# Altium footprint library QFPxx.PcbLib: 5 footprints (part 3 of 3)
Each footprint in its own frame and in the unit in brackets; x right, y up, seen from the top. Pads: shape width x height; smd on the part's side, far side on the other; paste and mask are expansions set on the pad; w line width, h text height; cw(c..) or ccw(c..) is an arc to the next point about the centre after c.
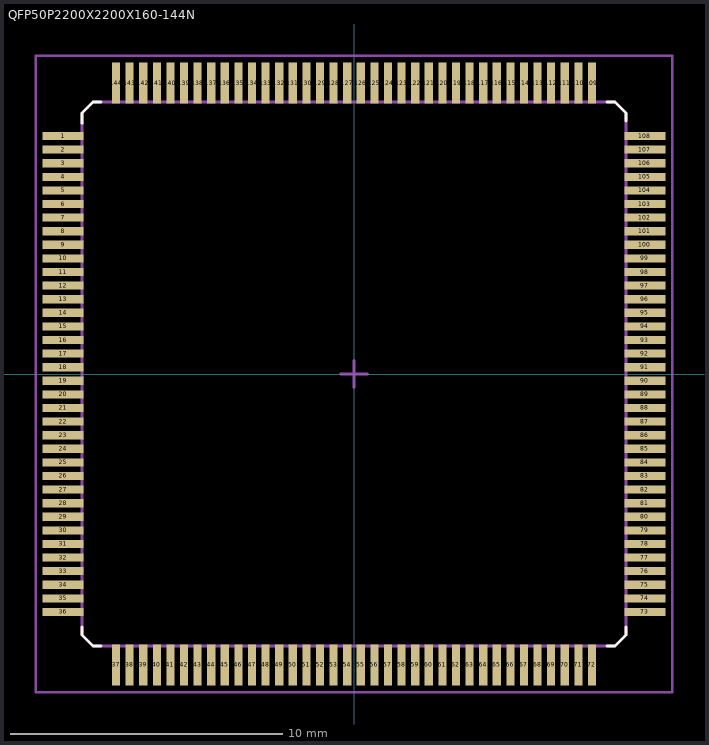
[diagram p2: the footprint, top view; thin cyan lines are the x and y axes]

## QFP50P2200X2200X160-144N [mm] "Thin QFP, 144-Leads, Body 20x20mm, Pitch 0.5mm"
height 1.6
pads (144):
  rect 1.5x0.3 smd: 1(-10.7,8.75) 2(-10.7,8.25) 3(-10.7,7.75) 4(-10.7,7.25) 5(-10.7,6.75) 6(-10.7,6.25) 7(-10.7,5.75) 8(-10.7,5.25) 9(-10.7,4.75) 10(-10.7,4.25) 11(-10.7,3.75) 12(-10.7,3.25) 13(-10.7,2.75) 14(-10.7,2.25) 15(-10.7,1.75) 16(-10.7,1.25) 17(-10.7,0.75) 18(-10.7,0.25) 19(-10.7,-0.25) 20(-10.7,-0.75) 21(-10.7,-1.25) 22(-10.7,-1.75) 23(-10.7,-2.25) 24(-10.7,-2.75) 25(-10.7,-3.25) 26(-10.7,-3.75) 27(-10.7,-4.25) 28(-10.7,-4.75) 29(-10.7,-5.25) 30(-10.7,-5.75) 31(-10.7,-6.25) 32(-10.7,-6.75) 33(-10.7,-7.25) 34(-10.7,-7.75) 35(-10.7,-8.25) 36(-10.7,-8.75) 73(10.7,-8.75) 74(10.7,-8.25) 75(10.7,-7.75) 76(10.7,-7.25) 77(10.7,-6.75) 78(10.7,-6.25) 79(10.7,-5.75) 80(10.7,-5.25) 81(10.7,-4.75) 82(10.7,-4.25) 83(10.7,-3.75) 84(10.7,-3.25) 85(10.7,-2.75) 86(10.7,-2.25) 87(10.7,-1.75) 88(10.7,-1.25) 89(10.7,-0.75) 90(10.7,-0.25) 91(10.7,0.25) 92(10.7,0.75) 93(10.7,1.25) 94(10.7,1.75) 95(10.7,2.25) 96(10.7,2.75) 97(10.7,3.25) 98(10.7,3.75) 99(10.7,4.25) 100(10.7,4.75) 101(10.7,5.25) 102(10.7,5.75) 103(10.7,6.25) 104(10.7,6.75) 105(10.7,7.25) 106(10.7,7.75) 107(10.7,8.25) 108(10.7,8.75)
  rect 0.3x1.5 smd: 37(-8.75,-10.7) 38(-8.25,-10.7) 39(-7.75,-10.7) 40(-7.25,-10.7) 41(-6.75,-10.7) 42(-6.25,-10.7) 43(-5.75,-10.7) 44(-5.25,-10.7) 45(-4.75,-10.7) 46(-4.25,-10.7) 47(-3.75,-10.7) 48(-3.25,-10.7) 49(-2.75,-10.7) 50(-2.25,-10.7) 51(-1.75,-10.7) 52(-1.25,-10.7) 53(-0.75,-10.7) 54(-0.25,-10.7) 55(0.25,-10.7) 56(0.75,-10.7) 57(1.25,-10.7) 58(1.75,-10.7) 59(2.25,-10.7) 60(2.75,-10.7) 61(3.25,-10.7) 62(3.75,-10.7) 63(4.25,-10.7) 64(4.75,-10.7) 65(5.25,-10.7) 66(5.75,-10.7) 67(6.25,-10.7) 68(6.75,-10.7) 69(7.25,-10.7) 70(7.75,-10.7) 71(8.25,-10.7) 72(8.75,-10.7) 109(8.75,10.7) 110(8.25,10.7) 111(7.75,10.7) 112(7.25,10.7) 113(6.75,10.7) 114(6.25,10.7) 115(5.75,10.7) 116(5.25,10.7) 117(4.75,10.7) 118(4.25,10.7) 119(3.75,10.7) 120(3.25,10.7) 121(2.75,10.7) 122(2.25,10.7) 123(1.75,10.7) 124(1.25,10.7) 125(0.75,10.7) 126(0.25,10.7) 127(-0.25,10.7) 128(-0.75,10.7) 129(-1.25,10.7) 130(-1.75,10.7) 131(-2.25,10.7) 132(-2.75,10.7) 133(-3.25,10.7) 134(-3.75,10.7) 135(-4.25,10.7) 136(-4.75,10.7) 137(-5.25,10.7) 138(-5.75,10.7) 139(-6.25,10.7) 140(-6.75,10.7) 141(-7.25,10.7) 142(-7.75,10.7) 143(-8.25,10.7) 144(-8.75,10.7)
Top Overlay:
  lines w0.1: -10,-9.3 -10,-9.6 -9.6,-10 -9.3,-10 ; -10,9.225 -10,9.6 -9.6,10 -9.3,10 ; 9.3,-10 9.6,-10 10,-9.6 10,-9.3 ; 9.3,10 9.6,10 10,9.6 10,9.3
Mechanical 13:
  lines w0.1: -10,-9.6 -10,9.6 -9.6,10 9.6,10 10,9.6 10,-9.6 9.6,-10 -9.6,-10 -10,-9.6
Mechanical 15:
  lines w0.1: -0.5,0 0.5,0 ; 0,-0.5 0,0.5 ; -11.7,-11.7 -11.7,11.7 11.7,11.7 11.7,-11.7 -11.7,-11.7
3D body: height 0.9, standoff 0, extent 8.625,10.2 8.875,10.3
3D body: height 0.9, standoff 0.7, extent 8.625,10 8.875,10.3
3D body: height 0.2, standoff 0, extent 8.625,10.3 8.875,11
3D body: height 0.9, standoff 0, extent 8.625,10.2 8.875,10.3
3D body: height 0.9, standoff 0.7, extent 8.625,10 8.875,10.3
3D body: height 0.2, standoff 0, extent 8.625,10.3 8.875,11
3D body: height 0.9, standoff 0, extent 8.125,10.2 8.375,10.3
3D body: height 0.9, standoff 0.7, extent 8.125,10 8.375,10.3
3D body: height 0.2, standoff 0, extent 8.125,10.3 8.375,11
3D body: height 0.9, standoff 0, extent 8.125,10.2 8.375,10.3
3D body: height 0.9, standoff 0.7, extent 8.125,10 8.375,10.3
3D body: height 0.2, standoff 0, extent 8.125,10.3 8.375,11
3D body: height 0.9, standoff 0, extent 7.625,10.2 7.875,10.3
3D body: height 0.9, standoff 0.7, extent 7.625,10 7.875,10.3
3D body: height 0.2, standoff 0, extent 7.625,10.3 7.875,11
3D body: height 0.9, standoff 0, extent 7.625,10.2 7.875,10.3
3D body: height 0.9, standoff 0.7, extent 7.625,10 7.875,10.3
3D body: height 0.2, standoff 0, extent 7.625,10.3 7.875,11
3D body: height 0.9, standoff 0, extent 7.125,10.2 7.375,10.3
3D body: height 0.9, standoff 0.7, extent 7.125,10 7.375,10.3
3D body: height 0.2, standoff 0, extent 7.125,10.3 7.375,11
3D body: height 0.9, standoff 0, extent 7.125,10.2 7.375,10.3
3D body: height 0.9, standoff 0.7, extent 7.125,10 7.375,10.3
3D body: height 0.2, standoff 0, extent 7.125,10.3 7.375,11
3D body: height 0.2, standoff 0, extent 5.125,10.3 5.375,11
3D body: height 0.9, standoff 0.7, extent 5.125,10 5.375,10.3
3D body: height 0.9, standoff 0, extent 5.125,10.2 5.375,10.3
3D body: height 0.2, standoff 0, extent 5.125,10.3 5.375,11
3D body: height 0.9, standoff 0.7, extent 5.125,10 5.375,10.3
3D body: height 0.9, standoff 0, extent 5.125,10.2 5.375,10.3
3D body: height 0.2, standoff 0, extent 5.625,10.3 5.875,11
3D body: height 0.9, standoff 0.7, extent 5.625,10 5.875,10.3
3D body: height 0.9, standoff 0, extent 5.625,10.2 5.875,10.3
3D body: height 0.2, standoff 0, extent 5.625,10.3 5.875,11
3D body: height 0.9, standoff 0.7, extent 5.625,10 5.875,10.3
3D body: height 0.9, standoff 0, extent 5.625,10.2 5.875,10.3
3D body: height 0.2, standoff 0, extent 6.125,10.3 6.375,11
3D body: height 0.9, standoff 0.7, extent 6.125,10 6.375,10.3
3D body: height 0.9, standoff 0, extent 6.125,10.2 6.375,10.3
3D body: height 0.2, standoff 0, extent 6.125,10.3 6.375,11
3D body: height 0.9, standoff 0.7, extent 6.125,10 6.375,10.3
3D body: height 0.9, standoff 0, extent 6.125,10.2 6.375,10.3
3D body: height 0.2, standoff 0, extent 6.625,10.3 6.875,11
3D body: height 0.9, standoff 0.7, extent 6.625,10 6.875,10.3
3D body: height 0.9, standoff 0, extent 6.625,10.2 6.875,10.3
3D body: height 0.2, standoff 0, extent 6.625,10.3 6.875,11
3D body: height 0.9, standoff 0.7, extent 6.625,10 6.875,10.3
3D body: height 0.9, standoff 0, extent 6.625,10.2 6.875,10.3
3D body: height 0.2, standoff 0, extent 3.125,10.3 3.375,11
3D body: height 0.9, standoff 0.7, extent 3.125,10 3.375,10.3
3D body: height 0.9, standoff 0, extent 3.125,10.2 3.375,10.3
3D body: height 0.2, standoff 0, extent 3.125,10.3 3.375,11
3D body: height 0.9, standoff 0.7, extent 3.125,10 3.375,10.3
3D body: height 0.9, standoff 0, extent 3.125,10.2 3.375,10.3
3D body: height 0.2, standoff 0, extent 3.625,10.3 3.875,11
3D body: height 0.9, standoff 0.7, extent 3.625,10 3.875,10.3
3D body: height 0.9, standoff 0, extent 3.625,10.2 3.875,10.3
3D body: height 0.2, standoff 0, extent 3.625,10.3 3.875,11
3D body: height 0.9, standoff 0.7, extent 3.625,10 3.875,10.3
3D body: height 0.9, standoff 0, extent 3.625,10.2 3.875,10.3
3D body: height 0.2, standoff 0, extent 4.125,10.3 4.375,11
3D body: height 0.9, standoff 0.7, extent 4.125,10 4.375,10.3
3D body: height 0.9, standoff 0, extent 4.125,10.2 4.375,10.3
3D body: height 0.2, standoff 0, extent 4.125,10.3 4.375,11
3D body: height 0.9, standoff 0.7, extent 4.125,10 4.375,10.3
3D body: height 0.9, standoff 0, extent 4.125,10.2 4.375,10.3
3D body: height 0.2, standoff 0, extent 4.625,10.3 4.875,11
3D body: height 0.9, standoff 0.7, extent 4.625,10 4.875,10.3
3D body: height 0.9, standoff 0, extent 4.625,10.2 4.875,10.3
3D body: height 0.2, standoff 0, extent 4.625,10.3 4.875,11
3D body: height 0.9, standoff 0.7, extent 4.625,10 4.875,10.3
3D body: height 0.9, standoff 0, extent 4.625,10.2 4.875,10.3
3D body: height 0.2, standoff 0, extent 1.125,10.3 1.375,11
3D body: height 0.9, standoff 0.7, extent 1.125,10 1.375,10.3
3D body: height 0.9, standoff 0, extent 1.125,10.2 1.375,10.3
3D body: height 0.2, standoff 0, extent 1.125,10.3 1.375,11
3D body: height 0.9, standoff 0.7, extent 1.125,10 1.375,10.3
3D body: height 0.9, standoff 0, extent 1.125,10.2 1.375,10.3
3D body: height 0.2, standoff 0, extent 1.625,10.3 1.875,11
3D body: height 0.9, standoff 0.7, extent 1.625,10 1.875,10.3
3D body: height 0.9, standoff 0, extent 1.625,10.2 1.875,10.3
3D body: height 0.2, standoff 0, extent 1.625,10.3 1.875,11
3D body: height 0.9, standoff 0.7, extent 1.625,10 1.875,10.3
3D body: height 0.9, standoff 0, extent 1.625,10.2 1.875,10.3
3D body: height 0.2, standoff 0, extent 2.125,10.3 2.375,11
3D body: height 0.9, standoff 0.7, extent 2.125,10 2.375,10.3
3D body: height 0.9, standoff 0, extent 2.125,10.2 2.375,10.3
3D body: height 0.2, standoff 0, extent 2.125,10.3 2.375,11
3D body: height 0.9, standoff 0.7, extent 2.125,10 2.375,10.3
3D body: height 0.9, standoff 0, extent 2.125,10.2 2.375,10.3
3D body: height 0.2, standoff 0, extent 2.625,10.3 2.875,11
3D body: height 0.9, standoff 0.7, extent 2.625,10 2.875,10.3
3D body: height 0.9, standoff 0, extent 2.625,10.2 2.875,10.3
3D body: height 0.2, standoff 0, extent 2.625,10.3 2.875,11
3D body: height 0.9, standoff 0.7, extent 2.625,10 2.875,10.3
3D body: height 0.9, standoff 0, extent 2.625,10.2 2.875,10.3
3D body: height 0.2, standoff 0, extent -0.875,10.3 -0.625,11
3D body: height 0.9, standoff 0.7, extent -0.875,10 -0.625,10.3
3D body: height 0.9, standoff 0, extent -0.875,10.2 -0.625,10.3
3D body: height 0.2, standoff 0, extent -0.875,10.3 -0.625,11
3D body: height 0.9, standoff 0.7, extent -0.875,10 -0.625,10.3
3D body: height 0.9, standoff 0, extent -0.875,10.2 -0.625,10.3
3D body: height 0.2, standoff 0, extent -0.375,10.3 -0.125,11
3D body: height 0.9, standoff 0.7, extent -0.375,10 -0.125,10.3
3D body: height 0.9, standoff 0, extent -0.375,10.2 -0.125,10.3
3D body: height 0.2, standoff 0, extent -0.375,10.3 -0.125,11
3D body: height 0.9, standoff 0.7, extent -0.375,10 -0.125,10.3
3D body: height 0.9, standoff 0, extent -0.375,10.2 -0.125,10.3
3D body: height 0.2, standoff 0, extent 0.125,10.3 0.375,11
3D body: height 0.9, standoff 0.7, extent 0.125,10 0.375,10.3
3D body: height 0.9, standoff 0, extent 0.125,10.2 0.375,10.3
3D body: height 0.2, standoff 0, extent 0.125,10.3 0.375,11
3D body: height 0.9, standoff 0.7, extent 0.125,10 0.375,10.3
3D body: height 0.9, standoff 0, extent 0.125,10.2 0.375,10.3
3D body: height 0.2, standoff 0, extent 0.625,10.3 0.875,11
3D body: height 0.9, standoff 0.7, extent 0.625,10 0.875,10.3
3D body: height 0.9, standoff 0, extent 0.625,10.2 0.875,10.3
3D body: height 0.2, standoff 0, extent 0.625,10.3 0.875,11
3D body: height 0.9, standoff 0.7, extent 0.625,10 0.875,10.3
3D body: height 0.9, standoff 0, extent 0.625,10.2 0.875,10.3
3D body: height 0.2, standoff 0, extent -2.875,10.3 -2.625,11
3D body: height 0.9, standoff 0.7, extent -2.875,10 -2.625,10.3
3D body: height 0.9, standoff 0, extent -2.875,10.2 -2.625,10.3
3D body: height 0.2, standoff 0, extent -2.875,10.3 -2.625,11
3D body: height 0.9, standoff 0.7, extent -2.875,10 -2.625,10.3
3D body: height 0.9, standoff 0, extent -2.875,10.2 -2.625,10.3
3D body: height 0.2, standoff 0, extent -2.375,10.3 -2.125,11
3D body: height 0.9, standoff 0.7, extent -2.375,10 -2.125,10.3
3D body: height 0.9, standoff 0, extent -2.375,10.2 -2.125,10.3
3D body: height 0.2, standoff 0, extent -2.375,10.3 -2.125,11
3D body: height 0.9, standoff 0.7, extent -2.375,10 -2.125,10.3
3D body: height 0.9, standoff 0, extent -2.375,10.2 -2.125,10.3
3D body: height 0.2, standoff 0, extent -1.875,10.3 -1.625,11
3D body: height 0.9, standoff 0.7, extent -1.875,10 -1.625,10.3
3D body: height 0.9, standoff 0, extent -1.875,10.2 -1.625,10.3
3D body: height 0.2, standoff 0, extent -1.875,10.3 -1.625,11
3D body: height 0.9, standoff 0.7, extent -1.875,10 -1.625,10.3
3D body: height 0.9, standoff 0, extent -1.875,10.2 -1.625,10.3
3D body: height 0.2, standoff 0, extent -1.375,10.3 -1.125,11
3D body: height 0.9, standoff 0.7, extent -1.375,10 -1.125,10.3
3D body: height 0.9, standoff 0, extent -1.375,10.2 -1.125,10.3
3D body: height 0.2, standoff 0, extent -1.375,10.3 -1.125,11
3D body: height 0.9, standoff 0.7, extent -1.375,10 -1.125,10.3
3D body: height 0.9, standoff 0, extent -1.375,10.2 -1.125,10.3
3D body: height 0.2, standoff 0, extent -4.875,10.3 -4.625,11
3D body: height 0.9, standoff 0.7, extent -4.875,10 -4.625,10.3
3D body: height 0.9, standoff 0, extent -4.875,10.2 -4.625,10.3
3D body: height 0.2, standoff 0, extent -4.875,10.3 -4.625,11
3D body: height 0.9, standoff 0.7, extent -4.875,10 -4.625,10.3
3D body: height 0.9, standoff 0, extent -4.875,10.2 -4.625,10.3
3D body: height 0.2, standoff 0, extent -4.375,10.3 -4.125,11
3D body: height 0.9, standoff 0.7, extent -4.375,10 -4.125,10.3
3D body: height 0.9, standoff 0, extent -4.375,10.2 -4.125,10.3
3D body: height 0.2, standoff 0, extent -4.375,10.3 -4.125,11
3D body: height 0.9, standoff 0.7, extent -4.375,10 -4.125,10.3
3D body: height 0.9, standoff 0, extent -4.375,10.2 -4.125,10.3
3D body: height 0.2, standoff 0, extent -3.875,10.3 -3.625,11
3D body: height 0.9, standoff 0.7, extent -3.875,10 -3.625,10.3
3D body: height 0.9, standoff 0, extent -3.875,10.2 -3.625,10.3
3D body: height 0.2, standoff 0, extent -3.875,10.3 -3.625,11
3D body: height 0.9, standoff 0.7, extent -3.875,10 -3.625,10.3
3D body: height 0.9, standoff 0, extent -3.875,10.2 -3.625,10.3
3D body: height 0.2, standoff 0, extent -3.375,10.3 -3.125,11
3D body: height 0.9, standoff 0.7, extent -3.375,10 -3.125,10.3
3D body: height 0.9, standoff 0, extent -3.375,10.2 -3.125,10.3
3D body: height 0.2, standoff 0, extent -3.375,10.3 -3.125,11
3D body: height 0.9, standoff 0.7, extent -3.375,10 -3.125,10.3
3D body: height 0.9, standoff 0, extent -3.375,10.2 -3.125,10.3
3D body: height 0.2, standoff 0, extent -6.875,10.3 -6.625,11
3D body: height 0.9, standoff 0.7, extent -6.875,10 -6.625,10.3
3D body: height 0.9, standoff 0, extent -6.875,10.2 -6.625,10.3
3D body: height 0.2, standoff 0, extent -6.875,10.3 -6.625,11
3D body: height 0.9, standoff 0.7, extent -6.875,10 -6.625,10.3
3D body: height 0.9, standoff 0, extent -6.875,10.2 -6.625,10.3
3D body: height 0.2, standoff 0, extent -6.375,10.3 -6.125,11
3D body: height 0.9, standoff 0.7, extent -6.375,10 -6.125,10.3
3D body: height 0.9, standoff 0, extent -6.375,10.2 -6.125,10.3
3D body: height 0.2, standoff 0, extent -6.375,10.3 -6.125,11
3D body: height 0.9, standoff 0.7, extent -6.375,10 -6.125,10.3
3D body: height 0.9, standoff 0, extent -6.375,10.2 -6.125,10.3
3D body: height 0.2, standoff 0, extent -5.875,10.3 -5.625,11
3D body: height 0.9, standoff 0.7, extent -5.875,10 -5.625,10.3
3D body: height 0.9, standoff 0, extent -5.875,10.2 -5.625,10.3
3D body: height 0.2, standoff 0, extent -5.875,10.3 -5.625,11
3D body: height 0.9, standoff 0.7, extent -5.875,10 -5.625,10.3
3D body: height 0.9, standoff 0, extent -5.875,10.2 -5.625,10.3
3D body: height 0.2, standoff 0, extent -5.375,10.3 -5.125,11
3D body: height 0.9, standoff 0.7, extent -5.375,10 -5.125,10.3
3D body: height 0.9, standoff 0, extent -5.375,10.2 -5.125,10.3
3D body: height 0.2, standoff 0, extent -5.375,10.3 -5.125,11
3D body: height 0.9, standoff 0.7, extent -5.375,10 -5.125,10.3
3D body: height 0.9, standoff 0, extent -5.375,10.2 -5.125,10.3
3D body: height 0.2, standoff 0, extent -8.875,10.3 -8.625,11
3D body: height 0.9, standoff 0.7, extent -8.875,10 -8.625,10.3
3D body: height 0.9, standoff 0, extent -8.875,10.2 -8.625,10.3
3D body: height 0.2, standoff 0, extent -8.875,10.3 -8.625,11
3D body: height 0.9, standoff 0.7, extent -8.875,10 -8.625,10.3
3D body: height 0.9, standoff 0, extent -8.875,10.2 -8.625,10.3
3D body: height 0.2, standoff 0, extent -8.375,10.3 -8.125,11
3D body: height 0.9, standoff 0.7, extent -8.375,10 -8.125,10.3
3D body: height 0.9, standoff 0, extent -8.375,10.2 -8.125,10.3
3D body: height 0.2, standoff 0, extent -8.375,10.3 -8.125,11
3D body: height 0.9, standoff 0.7, extent -8.375,10 -8.125,10.3
3D body: height 0.9, standoff 0, extent -8.375,10.2 -8.125,10.3
3D body: height 0.2, standoff 0, extent -7.875,10.3 -7.625,11
3D body: height 0.9, standoff 0.7, extent -7.875,10 -7.625,10.3
3D body: height 0.9, standoff 0, extent -7.875,10.2 -7.625,10.3
3D body: height 0.2, standoff 0, extent -7.875,10.3 -7.625,11
3D body: height 0.9, standoff 0.7, extent -7.875,10 -7.625,10.3
3D body: height 0.9, standoff 0, extent -7.875,10.2 -7.625,10.3
3D body: height 0.2, standoff 0, extent -7.375,10.3 -7.125,11
3D body: height 0.9, standoff 0.7, extent -7.375,10 -7.125,10.3
3D body: height 0.9, standoff 0, extent -7.375,10.2 -7.125,10.3
3D body: height 0.2, standoff 0, extent -7.375,10.3 -7.125,11
3D body: height 0.9, standoff 0.7, extent -7.375,10 -7.125,10.3
3D body: height 0.9, standoff 0, extent -7.375,10.2 -7.125,10.3
3D body: height 0.9, standoff 0, extent 10.2,-8.875 10.3,-8.625
3D body: height 0.9, standoff 0.7, extent 10,-8.875 10.3,-8.625
3D body: height 0.2, standoff 0, extent 10.3,-8.875 11,-8.625
3D body: height 0.9, standoff 0, extent 10.2,-8.875 10.3,-8.625
3D body: height 0.9, standoff 0.7, extent 10,-8.875 10.3,-8.625
3D body: height 0.2, standoff 0, extent 10.3,-8.875 11,-8.625
3D body: height 0.9, standoff 0, extent 10.2,-8.375 10.3,-8.125
3D body: height 0.9, standoff 0.7, extent 10,-8.375 10.3,-8.125
3D body: height 0.2, standoff 0, extent 10.3,-8.375 11,-8.125
3D body: height 0.9, standoff 0, extent 10.2,-8.375 10.3,-8.125
3D body: height 0.9, standoff 0.7, extent 10,-8.375 10.3,-8.125
3D body: height 0.2, standoff 0, extent 10.3,-8.375 11,-8.125
3D body: height 0.9, standoff 0, extent 10.2,-7.875 10.3,-7.625
3D body: height 0.9, standoff 0.7, extent 10,-7.875 10.3,-7.625
3D body: height 0.2, standoff 0, extent 10.3,-7.875 11,-7.625
3D body: height 0.9, standoff 0, extent 10.2,-7.875 10.3,-7.625
3D body: height 0.9, standoff 0.7, extent 10,-7.875 10.3,-7.625
3D body: height 0.2, standoff 0, extent 10.3,-7.875 11,-7.625
3D body: height 0.9, standoff 0, extent 10.2,-7.375 10.3,-7.125
3D body: height 0.9, standoff 0.7, extent 10,-7.375 10.3,-7.125
3D body: height 0.2, standoff 0, extent 10.3,-7.375 11,-7.125
3D body: height 0.9, standoff 0, extent 10.2,-7.375 10.3,-7.125
3D body: height 0.9, standoff 0.7, extent 10,-7.375 10.3,-7.125
3D body: height 0.2, standoff 0, extent 10.3,-7.375 11,-7.125
3D body: height 0.2, standoff 0, extent 10.3,-5.375 11,-5.125
3D body: height 0.9, standoff 0.7, extent 10,-5.375 10.3,-5.125
3D body: height 0.9, standoff 0, extent 10.2,-5.375 10.3,-5.125
3D body: height 0.2, standoff 0, extent 10.3,-5.375 11,-5.125
3D body: height 0.9, standoff 0.7, extent 10,-5.375 10.3,-5.125
3D body: height 0.9, standoff 0, extent 10.2,-5.375 10.3,-5.125
3D body: height 0.2, standoff 0, extent 10.3,-5.875 11,-5.625
3D body: height 0.9, standoff 0.7, extent 10,-5.875 10.3,-5.625
3D body: height 0.9, standoff 0, extent 10.2,-5.875 10.3,-5.625
3D body: height 0.2, standoff 0, extent 10.3,-5.875 11,-5.625
3D body: height 0.9, standoff 0.7, extent 10,-5.875 10.3,-5.625
3D body: height 0.9, standoff 0, extent 10.2,-5.875 10.3,-5.625
3D body: height 0.2, standoff 0, extent 10.3,-6.375 11,-6.125
3D body: height 0.9, standoff 0.7, extent 10,-6.375 10.3,-6.125
3D body: height 0.9, standoff 0, extent 10.2,-6.375 10.3,-6.125
3D body: height 0.2, standoff 0, extent 10.3,-6.375 11,-6.125
3D body: height 0.9, standoff 0.7, extent 10,-6.375 10.3,-6.125
3D body: height 0.9, standoff 0, extent 10.2,-6.375 10.3,-6.125
3D body: height 0.2, standoff 0, extent 10.3,-6.875 11,-6.625
3D body: height 0.9, standoff 0.7, extent 10,-6.875 10.3,-6.625
3D body: height 0.9, standoff 0, extent 10.2,-6.875 10.3,-6.625
3D body: height 0.2, standoff 0, extent 10.3,-6.875 11,-6.625
3D body: height 0.9, standoff 0.7, extent 10,-6.875 10.3,-6.625
3D body: height 0.9, standoff 0, extent 10.2,-6.875 10.3,-6.625
3D body: height 0.2, standoff 0, extent 10.3,-3.375 11,-3.125
3D body: height 0.9, standoff 0.7, extent 10,-3.375 10.3,-3.125
3D body: height 0.9, standoff 0, extent 10.2,-3.375 10.3,-3.125
3D body: height 0.2, standoff 0, extent 10.3,-3.375 11,-3.125
3D body: height 0.9, standoff 0.7, extent 10,-3.375 10.3,-3.125
3D body: height 0.9, standoff 0, extent 10.2,-3.375 10.3,-3.125
3D body: height 0.2, standoff 0, extent 10.3,-3.875 11,-3.625
3D body: height 0.9, standoff 0.7, extent 10,-3.875 10.3,-3.625
3D body: height 0.9, standoff 0, extent 10.2,-3.875 10.3,-3.625
3D body: height 0.2, standoff 0, extent 10.3,-3.875 11,-3.625
3D body: height 0.9, standoff 0.7, extent 10,-3.875 10.3,-3.625
3D body: height 0.9, standoff 0, extent 10.2,-3.875 10.3,-3.625
3D body: height 0.2, standoff 0, extent 10.3,-4.375 11,-4.125
3D body: height 0.9, standoff 0.7, extent 10,-4.375 10.3,-4.125
3D body: height 0.9, standoff 0, extent 10.2,-4.375 10.3,-4.125
3D body: height 0.2, standoff 0, extent 10.3,-4.375 11,-4.125
3D body: height 0.9, standoff 0.7, extent 10,-4.375 10.3,-4.125
3D body: height 0.9, standoff 0, extent 10.2,-4.375 10.3,-4.125
3D body: height 0.2, standoff 0, extent 10.3,-4.875 11,-4.625
3D body: height 0.9, standoff 0.7, extent 10,-4.875 10.3,-4.625
3D body: height 0.9, standoff 0, extent 10.2,-4.875 10.3,-4.625
3D body: height 0.2, standoff 0, extent 10.3,-4.875 11,-4.625
3D body: height 0.9, standoff 0.7, extent 10,-4.875 10.3,-4.625
3D body: height 0.9, standoff 0, extent 10.2,-4.875 10.3,-4.625
3D body: height 0.2, standoff 0, extent 10.3,-1.375 11,-1.125
3D body: height 0.9, standoff 0.7, extent 10,-1.375 10.3,-1.125
3D body: height 0.9, standoff 0, extent 10.2,-1.375 10.3,-1.125
3D body: height 0.2, standoff 0, extent 10.3,-1.375 11,-1.125
3D body: height 0.9, standoff 0.7, extent 10,-1.375 10.3,-1.125
3D body: height 0.9, standoff 0, extent 10.2,-1.375 10.3,-1.125
3D body: height 0.2, standoff 0, extent 10.3,-1.875 11,-1.625
3D body: height 0.9, standoff 0.7, extent 10,-1.875 10.3,-1.625
3D body: height 0.9, standoff 0, extent 10.2,-1.875 10.3,-1.625
3D body: height 0.2, standoff 0, extent 10.3,-1.875 11,-1.625
3D body: height 0.9, standoff 0.7, extent 10,-1.875 10.3,-1.625
3D body: height 0.9, standoff 0, extent 10.2,-1.875 10.3,-1.625
3D body: height 0.2, standoff 0, extent 10.3,-2.375 11,-2.125
3D body: height 0.9, standoff 0.7, extent 10,-2.375 10.3,-2.125
3D body: height 0.9, standoff 0, extent 10.2,-2.375 10.3,-2.125
3D body: height 0.2, standoff 0, extent 10.3,-2.375 11,-2.125
3D body: height 0.9, standoff 0.7, extent 10,-2.375 10.3,-2.125
3D body: height 0.9, standoff 0, extent 10.2,-2.375 10.3,-2.125
3D body: height 0.2, standoff 0, extent 10.3,-2.875 11,-2.625
3D body: height 0.9, standoff 0.7, extent 10,-2.875 10.3,-2.625
3D body: height 0.9, standoff 0, extent 10.2,-2.875 10.3,-2.625
3D body: height 0.2, standoff 0, extent 10.3,-2.875 11,-2.625
3D body: height 0.9, standoff 0.7, extent 10,-2.875 10.3,-2.625
3D body: height 0.9, standoff 0, extent 10.2,-2.875 10.3,-2.625
3D body: height 0.2, standoff 0, extent 10.3,0.625 11,0.875
3D body: height 0.9, standoff 0.7, extent 10,0.625 10.3,0.875
3D body: height 0.9, standoff 0, extent 10.2,0.625 10.3,0.875
3D body: height 0.2, standoff 0, extent 10.3,0.625 11,0.875
3D body: height 0.9, standoff 0.7, extent 10,0.625 10.3,0.875
3D body: height 0.9, standoff 0, extent 10.2,0.625 10.3,0.875
3D body: height 0.2, standoff 0, extent 10.3,0.125 11,0.375
3D body: height 0.9, standoff 0.7, extent 10,0.125 10.3,0.375
3D body: height 0.9, standoff 0, extent 10.2,0.125 10.3,0.375
3D body: height 0.2, standoff 0, extent 10.3,0.125 11,0.375
3D body: height 0.9, standoff 0.7, extent 10,0.125 10.3,0.375
3D body: height 0.9, standoff 0, extent 10.2,0.125 10.3,0.375
3D body: height 0.2, standoff 0, extent 10.3,-0.375 11,-0.125
3D body: height 0.9, standoff 0.7, extent 10,-0.375 10.3,-0.125
3D body: height 0.9, standoff 0, extent 10.2,-0.375 10.3,-0.125
3D body: height 0.2, standoff 0, extent 10.3,-0.375 11,-0.125
3D body: height 0.9, standoff 0.7, extent 10,-0.375 10.3,-0.125
3D body: height 0.9, standoff 0, extent 10.2,-0.375 10.3,-0.125
3D body: height 0.2, standoff 0, extent 10.3,-0.875 11,-0.625
3D body: height 0.9, standoff 0.7, extent 10,-0.875 10.3,-0.625
3D body: height 0.9, standoff 0, extent 10.2,-0.875 10.3,-0.625
3D body: height 0.2, standoff 0, extent 10.3,-0.875 11,-0.625
3D body: height 0.9, standoff 0.7, extent 10,-0.875 10.3,-0.625
3D body: height 0.9, standoff 0, extent 10.2,-0.875 10.3,-0.625
3D body: height 0.2, standoff 0, extent 10.3,2.625 11,2.875
3D body: height 0.9, standoff 0.7, extent 10,2.625 10.3,2.875
3D body: height 0.9, standoff 0, extent 10.2,2.625 10.3,2.875
3D body: height 0.2, standoff 0, extent 10.3,2.625 11,2.875
3D body: height 0.9, standoff 0.7, extent 10,2.625 10.3,2.875
3D body: height 0.9, standoff 0, extent 10.2,2.625 10.3,2.875
3D body: height 0.2, standoff 0, extent 10.3,2.125 11,2.375
3D body: height 0.9, standoff 0.7, extent 10,2.125 10.3,2.375
3D body: height 0.9, standoff 0, extent 10.2,2.125 10.3,2.375
3D body: height 0.2, standoff 0, extent 10.3,2.125 11,2.375
3D body: height 0.9, standoff 0.7, extent 10,2.125 10.3,2.375
3D body: height 0.9, standoff 0, extent 10.2,2.125 10.3,2.375
3D body: height 0.2, standoff 0, extent 10.3,1.625 11,1.875
3D body: height 0.9, standoff 0.7, extent 10,1.625 10.3,1.875
3D body: height 0.9, standoff 0, extent 10.2,1.625 10.3,1.875
3D body: height 0.2, standoff 0, extent 10.3,1.625 11,1.875
3D body: height 0.9, standoff 0.7, extent 10,1.625 10.3,1.875
3D body: height 0.9, standoff 0, extent 10.2,1.625 10.3,1.875
3D body: height 0.2, standoff 0, extent 10.3,1.125 11,1.375
3D body: height 0.9, standoff 0.7, extent 10,1.125 10.3,1.375
3D body: height 0.9, standoff 0, extent 10.2,1.125 10.3,1.375
3D body: height 0.2, standoff 0, extent 10.3,1.125 11,1.375
3D body: height 0.9, standoff 0.7, extent 10,1.125 10.3,1.375
3D body: height 0.9, standoff 0, extent 10.2,1.125 10.3,1.375
3D body: height 0.2, standoff 0, extent 10.3,4.625 11,4.875
3D body: height 0.9, standoff 0.7, extent 10,4.625 10.3,4.875
3D body: height 0.9, standoff 0, extent 10.2,4.625 10.3,4.875
3D body: height 0.2, standoff 0, extent 10.3,4.625 11,4.875
3D body: height 0.9, standoff 0.7, extent 10,4.625 10.3,4.875
3D body: height 0.9, standoff 0, extent 10.2,4.625 10.3,4.875
3D body: height 0.2, standoff 0, extent 10.3,4.125 11,4.375
3D body: height 0.9, standoff 0.7, extent 10,4.125 10.3,4.375
3D body: height 0.9, standoff 0, extent 10.2,4.125 10.3,4.375
3D body: height 0.2, standoff 0, extent 10.3,4.125 11,4.375
3D body: height 0.9, standoff 0.7, extent 10,4.125 10.3,4.375
3D body: height 0.9, standoff 0, extent 10.2,4.125 10.3,4.375
3D body: height 0.2, standoff 0, extent 10.3,3.625 11,3.875
3D body: height 0.9, standoff 0.7, extent 10,3.625 10.3,3.875
3D body: height 0.9, standoff 0, extent 10.2,3.625 10.3,3.875
3D body: height 0.2, standoff 0, extent 10.3,3.625 11,3.875
3D body: height 0.9, standoff 0.7, extent 10,3.625 10.3,3.875
3D body: height 0.9, standoff 0, extent 10.2,3.625 10.3,3.875
3D body: height 0.2, standoff 0, extent 10.3,3.125 11,3.375
3D body: height 0.9, standoff 0.7, extent 10,3.125 10.3,3.375
3D body: height 0.9, standoff 0, extent 10.2,3.125 10.3,3.375
3D body: height 0.2, standoff 0, extent 10.3,3.125 11,3.375
3D body: height 0.9, standoff 0.7, extent 10,3.125 10.3,3.375
3D body: height 0.9, standoff 0, extent 10.2,3.125 10.3,3.375
3D body: height 0.2, standoff 0, extent 10.3,6.625 11,6.875
3D body: height 0.9, standoff 0.7, extent 10,6.625 10.3,6.875
3D body: height 0.9, standoff 0, extent 10.2,6.625 10.3,6.875
3D body: height 0.2, standoff 0, extent 10.3,6.625 11,6.875
3D body: height 0.9, standoff 0.7, extent 10,6.625 10.3,6.875
3D body: height 0.9, standoff 0, extent 10.2,6.625 10.3,6.875
3D body: height 0.2, standoff 0, extent 10.3,6.125 11,6.375
3D body: height 0.9, standoff 0.7, extent 10,6.125 10.3,6.375
3D body: height 0.9, standoff 0, extent 10.2,6.125 10.3,6.375
3D body: height 0.2, standoff 0, extent 10.3,6.125 11,6.375
3D body: height 0.9, standoff 0.7, extent 10,6.125 10.3,6.375
3D body: height 0.9, standoff 0, extent 10.2,6.125 10.3,6.375
3D body: height 0.2, standoff 0, extent 10.3,5.625 11,5.875
3D body: height 0.9, standoff 0.7, extent 10,5.625 10.3,5.875
3D body: height 0.9, standoff 0, extent 10.2,5.625 10.3,5.875
3D body: height 0.2, standoff 0, extent 10.3,5.625 11,5.875
3D body: height 0.9, standoff 0.7, extent 10,5.625 10.3,5.875
3D body: height 0.9, standoff 0, extent 10.2,5.625 10.3,5.875
3D body: height 0.2, standoff 0, extent 10.3,5.125 11,5.375
3D body: height 0.9, standoff 0.7, extent 10,5.125 10.3,5.375
3D body: height 0.9, standoff 0, extent 10.2,5.125 10.3,5.375
3D body: height 0.2, standoff 0, extent 10.3,5.125 11,5.375
3D body: height 0.9, standoff 0.7, extent 10,5.125 10.3,5.375
3D body: height 0.9, standoff 0, extent 10.2,5.125 10.3,5.375
3D body: height 0.2, standoff 0, extent 10.3,8.625 11,8.875
3D body: height 0.9, standoff 0.7, extent 10,8.625 10.3,8.875
3D body: height 0.9, standoff 0, extent 10.2,8.625 10.3,8.875
3D body: height 0.2, standoff 0, extent 10.3,8.625 11,8.875
3D body: height 0.9, standoff 0.7, extent 10,8.625 10.3,8.875
3D body: height 0.9, standoff 0, extent 10.2,8.625 10.3,8.875
3D body: height 0.2, standoff 0, extent 10.3,8.125 11,8.375
3D body: height 0.9, standoff 0.7, extent 10,8.125 10.3,8.375
3D body: height 0.9, standoff 0, extent 10.2,8.125 10.3,8.375
3D body: height 0.2, standoff 0, extent 10.3,8.125 11,8.375
3D body: height 0.9, standoff 0.7, extent 10,8.125 10.3,8.375
3D body: height 0.9, standoff 0, extent 10.2,8.125 10.3,8.375
3D body: height 0.2, standoff 0, extent 10.3,7.625 11,7.875
3D body: height 0.9, standoff 0.7, extent 10,7.625 10.3,7.875
3D body: height 0.9, standoff 0, extent 10.2,7.625 10.3,7.875
3D body: height 0.2, standoff 0, extent 10.3,7.625 11,7.875
3D body: height 0.9, standoff 0.7, extent 10,7.625 10.3,7.875
3D body: height 0.9, standoff 0, extent 10.2,7.625 10.3,7.875
3D body: height 0.2, standoff 0, extent 10.3,7.125 11,7.375
3D body: height 0.9, standoff 0.7, extent 10,7.125 10.3,7.375
3D body: height 0.9, standoff 0, extent 10.2,7.125 10.3,7.375
3D body: height 0.2, standoff 0, extent 10.3,7.125 11,7.375
3D body: height 0.9, standoff 0.7, extent 10,7.125 10.3,7.375
3D body: height 0.9, standoff 0, extent 10.2,7.125 10.3,7.375
3D body: height 0.9, standoff 0, extent -8.875,-10.3 -8.625,-10.2
3D body: height 0.9, standoff 0.7, extent -8.875,-10.3 -8.625,-10
3D body: height 0.2, standoff 0, extent -8.875,-11 -8.625,-10.3
3D body: height 0.9, standoff 0, extent -8.875,-10.3 -8.625,-10.2
3D body: height 0.9, standoff 0.7, extent -8.875,-10.3 -8.625,-10
3D body: height 0.2, standoff 0, extent -8.875,-11 -8.625,-10.3
3D body: height 0.9, standoff 0, extent -8.375,-10.3 -8.125,-10.2
3D body: height 0.9, standoff 0.7, extent -8.375,-10.3 -8.125,-10
3D body: height 0.2, standoff 0, extent -8.375,-11 -8.125,-10.3
3D body: height 0.9, standoff 0, extent -8.375,-10.3 -8.125,-10.2
3D body: height 0.9, standoff 0.7, extent -8.375,-10.3 -8.125,-10
3D body: height 0.2, standoff 0, extent -8.375,-11 -8.125,-10.3
3D body: height 0.9, standoff 0, extent -7.875,-10.3 -7.625,-10.2
3D body: height 0.9, standoff 0.7, extent -7.875,-10.3 -7.625,-10
3D body: height 0.2, standoff 0, extent -7.875,-11 -7.625,-10.3
3D body: height 0.9, standoff 0, extent -7.875,-10.3 -7.625,-10.2
3D body: height 0.9, standoff 0.7, extent -7.875,-10.3 -7.625,-10
3D body: height 0.2, standoff 0, extent -7.875,-11 -7.625,-10.3
3D body: height 0.9, standoff 0, extent -7.375,-10.3 -7.125,-10.2
3D body: height 0.9, standoff 0.7, extent -7.375,-10.3 -7.125,-10
3D body: height 0.2, standoff 0, extent -7.375,-11 -7.125,-10.3
3D body: height 0.9, standoff 0, extent -7.375,-10.3 -7.125,-10.2
3D body: height 0.9, standoff 0.7, extent -7.375,-10.3 -7.125,-10
3D body: height 0.2, standoff 0, extent -7.375,-11 -7.125,-10.3
3D body: height 0.2, standoff 0, extent -5.375,-11 -5.125,-10.3
3D body: height 0.9, standoff 0.7, extent -5.375,-10.3 -5.125,-10
3D body: height 0.9, standoff 0, extent -5.375,-10.3 -5.125,-10.2
3D body: height 0.2, standoff 0, extent -5.375,-11 -5.125,-10.3
3D body: height 0.9, standoff 0.7, extent -5.375,-10.3 -5.125,-10
3D body: height 0.9, standoff 0, extent -5.375,-10.3 -5.125,-10.2
3D body: height 0.2, standoff 0, extent -5.875,-11 -5.625,-10.3
3D body: height 0.9, standoff 0.7, extent -5.875,-10.3 -5.625,-10
3D body: height 0.9, standoff 0, extent -5.875,-10.3 -5.625,-10.2
3D body: height 0.2, standoff 0, extent -5.875,-11 -5.625,-10.3
3D body: height 0.9, standoff 0.7, extent -5.875,-10.3 -5.625,-10
3D body: height 0.9, standoff 0, extent -5.875,-10.3 -5.625,-10.2
3D body: height 0.2, standoff 0, extent -6.375,-11 -6.125,-10.3
3D body: height 0.9, standoff 0.7, extent -6.375,-10.3 -6.125,-10
3D body: height 0.9, standoff 0, extent -6.375,-10.3 -6.125,-10.2
3D body: height 0.2, standoff 0, extent -6.375,-11 -6.125,-10.3
3D body: height 0.9, standoff 0.7, extent -6.375,-10.3 -6.125,-10
3D body: height 0.9, standoff 0, extent -6.375,-10.3 -6.125,-10.2
3D body: height 0.2, standoff 0, extent -6.875,-11 -6.625,-10.3
3D body: height 0.9, standoff 0.7, extent -6.875,-10.3 -6.625,-10
3D body: height 0.9, standoff 0, extent -6.875,-10.3 -6.625,-10.2
3D body: height 0.2, standoff 0, extent -6.875,-11 -6.625,-10.3
3D body: height 0.9, standoff 0.7, extent -6.875,-10.3 -6.625,-10
3D body: height 0.9, standoff 0, extent -6.875,-10.3 -6.625,-10.2
3D body: height 0.2, standoff 0, extent -3.375,-11 -3.125,-10.3
3D body: height 0.9, standoff 0.7, extent -3.375,-10.3 -3.125,-10
3D body: height 0.9, standoff 0, extent -3.375,-10.3 -3.125,-10.2
3D body: height 0.2, standoff 0, extent -3.375,-11 -3.125,-10.3
3D body: height 0.9, standoff 0.7, extent -3.375,-10.3 -3.125,-10
3D body: height 0.9, standoff 0, extent -3.375,-10.3 -3.125,-10.2
3D body: height 0.2, standoff 0, extent -3.875,-11 -3.625,-10.3
3D body: height 0.9, standoff 0.7, extent -3.875,-10.3 -3.625,-10
3D body: height 0.9, standoff 0, extent -3.875,-10.3 -3.625,-10.2
3D body: height 0.2, standoff 0, extent -3.875,-11 -3.625,-10.3
3D body: height 0.9, standoff 0.7, extent -3.875,-10.3 -3.625,-10
3D body: height 0.9, standoff 0, extent -3.875,-10.3 -3.625,-10.2
3D body: height 0.2, standoff 0, extent -4.375,-11 -4.125,-10.3
3D body: height 0.9, standoff 0.7, extent -4.375,-10.3 -4.125,-10
3D body: height 0.9, standoff 0, extent -4.375,-10.3 -4.125,-10.2
3D body: height 0.2, standoff 0, extent -4.375,-11 -4.125,-10.3
3D body: height 0.9, standoff 0.7, extent -4.375,-10.3 -4.125,-10
3D body: height 0.9, standoff 0, extent -4.375,-10.3 -4.125,-10.2
3D body: height 0.2, standoff 0, extent -4.875,-11 -4.625,-10.3
3D body: height 0.9, standoff 0.7, extent -4.875,-10.3 -4.625,-10
3D body: height 0.9, standoff 0, extent -4.875,-10.3 -4.625,-10.2
3D body: height 0.2, standoff 0, extent -4.875,-11 -4.625,-10.3
3D body: height 0.9, standoff 0.7, extent -4.875,-10.3 -4.625,-10
3D body: height 0.9, standoff 0, extent -4.875,-10.3 -4.625,-10.2
3D body: height 0.2, standoff 0, extent -1.375,-11 -1.125,-10.3
3D body: height 0.9, standoff 0.7, extent -1.375,-10.3 -1.125,-10
3D body: height 0.9, standoff 0, extent -1.375,-10.3 -1.125,-10.2
3D body: height 0.2, standoff 0, extent -1.375,-11 -1.125,-10.3
3D body: height 0.9, standoff 0.7, extent -1.375,-10.3 -1.125,-10
3D body: height 0.9, standoff 0, extent -1.375,-10.3 -1.125,-10.2
3D body: height 0.2, standoff 0, extent -1.875,-11 -1.625,-10.3
3D body: height 0.9, standoff 0.7, extent -1.875,-10.3 -1.625,-10
3D body: height 0.9, standoff 0, extent -1.875,-10.3 -1.625,-10.2
3D body: height 0.2, standoff 0, extent -1.875,-11 -1.625,-10.3
3D body: height 0.9, standoff 0.7, extent -1.875,-10.3 -1.625,-10
3D body: height 0.9, standoff 0, extent -1.875,-10.3 -1.625,-10.2
3D body: height 0.2, standoff 0, extent -2.375,-11 -2.125,-10.3
3D body: height 0.9, standoff 0.7, extent -2.375,-10.3 -2.125,-10
3D body: height 0.9, standoff 0, extent -2.375,-10.3 -2.125,-10.2
3D body: height 0.2, standoff 0, extent -2.375,-11 -2.125,-10.3
3D body: height 0.9, standoff 0.7, extent -2.375,-10.3 -2.125,-10
3D body: height 0.9, standoff 0, extent -2.375,-10.3 -2.125,-10.2
3D body: height 0.2, standoff 0, extent -2.875,-11 -2.625,-10.3
3D body: height 0.9, standoff 0.7, extent -2.875,-10.3 -2.625,-10
3D body: height 0.9, standoff 0, extent -2.875,-10.3 -2.625,-10.2
3D body: height 0.2, standoff 0, extent -2.875,-11 -2.625,-10.3
3D body: height 0.9, standoff 0.7, extent -2.875,-10.3 -2.625,-10
3D body: height 0.9, standoff 0, extent -2.875,-10.3 -2.625,-10.2
3D body: height 0.2, standoff 0, extent 0.625,-11 0.875,-10.3
3D body: height 0.9, standoff 0.7, extent 0.625,-10.3 0.875,-10
3D body: height 0.9, standoff 0, extent 0.625,-10.3 0.875,-10.2
3D body: height 0.2, standoff 0, extent 0.625,-11 0.875,-10.3
3D body: height 0.9, standoff 0.7, extent 0.625,-10.3 0.875,-10
3D body: height 0.9, standoff 0, extent 0.625,-10.3 0.875,-10.2
3D body: height 0.2, standoff 0, extent 0.125,-11 0.375,-10.3
3D body: height 0.9, standoff 0.7, extent 0.125,-10.3 0.375,-10
3D body: height 0.9, standoff 0, extent 0.125,-10.3 0.375,-10.2
3D body: height 0.2, standoff 0, extent 0.125,-11 0.375,-10.3
3D body: height 0.9, standoff 0.7, extent 0.125,-10.3 0.375,-10
3D body: height 0.9, standoff 0, extent 0.125,-10.3 0.375,-10.2
3D body: height 0.2, standoff 0, extent -0.375,-11 -0.125,-10.3
3D body: height 0.9, standoff 0.7, extent -0.375,-10.3 -0.125,-10
3D body: height 0.9, standoff 0, extent -0.375,-10.3 -0.125,-10.2
3D body: height 0.2, standoff 0, extent -0.375,-11 -0.125,-10.3
3D body: height 0.9, standoff 0.7, extent -0.375,-10.3 -0.125,-10
3D body: height 0.9, standoff 0, extent -0.375,-10.3 -0.125,-10.2
3D body: height 0.2, standoff 0, extent -0.875,-11 -0.625,-10.3
3D body: height 0.9, standoff 0.7, extent -0.875,-10.3 -0.625,-10
3D body: height 0.9, standoff 0, extent -0.875,-10.3 -0.625,-10.2
3D body: height 0.2, standoff 0, extent -0.875,-11 -0.625,-10.3
3D body: height 0.9, standoff 0.7, extent -0.875,-10.3 -0.625,-10
3D body: height 0.9, standoff 0, extent -0.875,-10.3 -0.625,-10.2
3D body: height 0.2, standoff 0, extent 2.625,-11 2.875,-10.3
3D body: height 0.9, standoff 0.7, extent 2.625,-10.3 2.875,-10
3D body: height 0.9, standoff 0, extent 2.625,-10.3 2.875,-10.2
3D body: height 0.2, standoff 0, extent 2.625,-11 2.875,-10.3
3D body: height 0.9, standoff 0.7, extent 2.625,-10.3 2.875,-10
3D body: height 0.9, standoff 0, extent 2.625,-10.3 2.875,-10.2
3D body: height 0.2, standoff 0, extent 2.125,-11 2.375,-10.3
3D body: height 0.9, standoff 0.7, extent 2.125,-10.3 2.375,-10
3D body: height 0.9, standoff 0, extent 2.125,-10.3 2.375,-10.2
3D body: height 0.2, standoff 0, extent 2.125,-11 2.375,-10.3
3D body: height 0.9, standoff 0.7, extent 2.125,-10.3 2.375,-10
3D body: height 0.9, standoff 0, extent 2.125,-10.3 2.375,-10.2
3D body: height 0.2, standoff 0, extent 1.625,-11 1.875,-10.3
3D body: height 0.9, standoff 0.7, extent 1.625,-10.3 1.875,-10
3D body: height 0.9, standoff 0, extent 1.625,-10.3 1.875,-10.2
3D body: height 0.2, standoff 0, extent 1.625,-11 1.875,-10.3
3D body: height 0.9, standoff 0.7, extent 1.625,-10.3 1.875,-10
3D body: height 0.9, standoff 0, extent 1.625,-10.3 1.875,-10.2
3D body: height 0.2, standoff 0, extent 1.125,-11 1.375,-10.3
3D body: height 0.9, standoff 0.7, extent 1.125,-10.3 1.375,-10
3D body: height 0.9, standoff 0, extent 1.125,-10.3 1.375,-10.2
3D body: height 0.2, standoff 0, extent 1.125,-11 1.375,-10.3
3D body: height 0.9, standoff 0.7, extent 1.125,-10.3 1.375,-10
3D body: height 0.9, standoff 0, extent 1.125,-10.3 1.375,-10.2
3D body: height 0.2, standoff 0, extent 4.625,-11 4.875,-10.3
3D body: height 0.9, standoff 0.7, extent 4.625,-10.3 4.875,-10
3D body: height 0.9, standoff 0, extent 4.625,-10.3 4.875,-10.2
3D body: height 0.2, standoff 0, extent 4.625,-11 4.875,-10.3
3D body: height 0.9, standoff 0.7, extent 4.625,-10.3 4.875,-10
3D body: height 0.9, standoff 0, extent 4.625,-10.3 4.875,-10.2
3D body: height 0.2, standoff 0, extent 4.125,-11 4.375,-10.3
3D body: height 0.9, standoff 0.7, extent 4.125,-10.3 4.375,-10
3D body: height 0.9, standoff 0, extent 4.125,-10.3 4.375,-10.2
3D body: height 0.2, standoff 0, extent 4.125,-11 4.375,-10.3
3D body: height 0.9, standoff 0.7, extent 4.125,-10.3 4.375,-10
3D body: height 0.9, standoff 0, extent 4.125,-10.3 4.375,-10.2
3D body: height 0.2, standoff 0, extent 3.625,-11 3.875,-10.3
3D body: height 0.9, standoff 0.7, extent 3.625,-10.3 3.875,-10
3D body: height 0.9, standoff 0, extent 3.625,-10.3 3.875,-10.2
3D body: height 0.2, standoff 0, extent 3.625,-11 3.875,-10.3
3D body: height 0.9, standoff 0.7, extent 3.625,-10.3 3.875,-10
3D body: height 0.9, standoff 0, extent 3.625,-10.3 3.875,-10.2
3D body: height 0.2, standoff 0, extent 3.125,-11 3.375,-10.3
3D body: height 0.9, standoff 0.7, extent 3.125,-10.3 3.375,-10
3D body: height 0.9, standoff 0, extent 3.125,-10.3 3.375,-10.2
3D body: height 0.2, standoff 0, extent 3.125,-11 3.375,-10.3
3D body: height 0.9, standoff 0.7, extent 3.125,-10.3 3.375,-10
3D body: height 0.9, standoff 0, extent 3.125,-10.3 3.375,-10.2
3D body: height 0.2, standoff 0, extent 6.625,-11 6.875,-10.3
3D body: height 0.9, standoff 0.7, extent 6.625,-10.3 6.875,-10
3D body: height 0.9, standoff 0, extent 6.625,-10.3 6.875,-10.2
3D body: height 0.2, standoff 0, extent 6.625,-11 6.875,-10.3
3D body: height 0.9, standoff 0.7, extent 6.625,-10.3 6.875,-10
3D body: height 0.9, standoff 0, extent 6.625,-10.3 6.875,-10.2
3D body: height 0.2, standoff 0, extent 6.125,-11 6.375,-10.3
3D body: height 0.9, standoff 0.7, extent 6.125,-10.3 6.375,-10
3D body: height 0.9, standoff 0, extent 6.125,-10.3 6.375,-10.2
3D body: height 0.2, standoff 0, extent 6.125,-11 6.375,-10.3
3D body: height 0.9, standoff 0.7, extent 6.125,-10.3 6.375,-10
3D body: height 0.9, standoff 0, extent 6.125,-10.3 6.375,-10.2
3D body: height 0.2, standoff 0, extent 5.625,-11 5.875,-10.3
3D body: height 0.9, standoff 0.7, extent 5.625,-10.3 5.875,-10
3D body: height 0.9, standoff 0, extent 5.625,-10.3 5.875,-10.2
3D body: height 0.2, standoff 0, extent 5.625,-11 5.875,-10.3
3D body: height 0.9, standoff 0.7, extent 5.625,-10.3 5.875,-10
3D body: height 0.9, standoff 0, extent 5.625,-10.3 5.875,-10.2
3D body: height 0.2, standoff 0, extent 5.125,-11 5.375,-10.3
3D body: height 0.9, standoff 0.7, extent 5.125,-10.3 5.375,-10
3D body: height 0.9, standoff 0, extent 5.125,-10.3 5.375,-10.2
3D body: height 0.2, standoff 0, extent 5.125,-11 5.375,-10.3
3D body: height 0.9, standoff 0.7, extent 5.125,-10.3 5.375,-10
3D body: height 0.9, standoff 0, extent 5.125,-10.3 5.375,-10.2
3D body: height 0.2, standoff 0, extent 8.625,-11 8.875,-10.3
3D body: height 0.9, standoff 0.7, extent 8.625,-10.3 8.875,-10
3D body: height 0.9, standoff 0, extent 8.625,-10.3 8.875,-10.2
3D body: height 0.2, standoff 0, extent 8.625,-11 8.875,-10.3
3D body: height 0.9, standoff 0.7, extent 8.625,-10.3 8.875,-10
3D body: height 0.9, standoff 0, extent 8.625,-10.3 8.875,-10.2
3D body: height 0.2, standoff 0, extent 8.125,-11 8.375,-10.3
3D body: height 0.9, standoff 0.7, extent 8.125,-10.3 8.375,-10
3D body: height 0.9, standoff 0, extent 8.125,-10.3 8.375,-10.2
3D body: height 0.2, standoff 0, extent 8.125,-11 8.375,-10.3
3D body: height 0.9, standoff 0.7, extent 8.125,-10.3 8.375,-10
3D body: height 0.9, standoff 0, extent 8.125,-10.3 8.375,-10.2
3D body: height 0.2, standoff 0, extent 7.625,-11 7.875,-10.3
3D body: height 0.9, standoff 0.7, extent 7.625,-10.3 7.875,-10
3D body: height 0.9, standoff 0, extent 7.625,-10.3 7.875,-10.2
3D body: height 0.2, standoff 0, extent 7.625,-11 7.875,-10.3
3D body: height 0.9, standoff 0.7, extent 7.625,-10.3 7.875,-10
3D body: height 0.9, standoff 0, extent 7.625,-10.3 7.875,-10.2
3D body: height 0.2, standoff 0, extent 7.125,-11 7.375,-10.3
3D body: height 0.9, standoff 0.7, extent 7.125,-10.3 7.375,-10
3D body: height 0.9, standoff 0, extent 7.125,-10.3 7.375,-10.2
3D body: height 0.2, standoff 0, extent 7.125,-11 7.375,-10.3
3D body: height 0.9, standoff 0.7, extent 7.125,-10.3 7.375,-10
3D body: height 0.9, standoff 0, extent 7.125,-10.3 7.375,-10.2
3D body: height 0.9, standoff 0, extent -10.3,-7.375 -10.2,-7.125
3D body: height 0.9, standoff 0.7, extent -10.3,-7.375 -10,-7.125
3D body: height 0.2, standoff 0, extent -11,-7.375 -10.3,-7.125
3D body: height 0.9, standoff 0, extent -10.3,-7.375 -10.2,-7.125
3D body: height 0.9, standoff 0.7, extent -10.3,-7.375 -10,-7.125
3D body: height 0.2, standoff 0, extent -11,-7.375 -10.3,-7.125
3D body: height 0.9, standoff 0, extent -10.3,-7.875 -10.2,-7.625
3D body: height 0.9, standoff 0.7, extent -10.3,-7.875 -10,-7.625
3D body: height 0.2, standoff 0, extent -11,-7.875 -10.3,-7.625
3D body: height 0.9, standoff 0, extent -10.3,-7.875 -10.2,-7.625
3D body: height 0.9, standoff 0.7, extent -10.3,-7.875 -10,-7.625
3D body: height 0.2, standoff 0, extent -11,-7.875 -10.3,-7.625
3D body: height 0.9, standoff 0, extent -10.3,-8.375 -10.2,-8.125
3D body: height 0.9, standoff 0.7, extent -10.3,-8.375 -10,-8.125
3D body: height 0.2, standoff 0, extent -11,-8.375 -10.3,-8.125
3D body: height 0.9, standoff 0, extent -10.3,-8.375 -10.2,-8.125
3D body: height 0.9, standoff 0.7, extent -10.3,-8.375 -10,-8.125
3D body: height 0.2, standoff 0, extent -11,-8.375 -10.3,-8.125
3D body: height 0.9, standoff 0, extent -10.3,-8.875 -10.2,-8.625
3D body: height 0.9, standoff 0.7, extent -10.3,-8.875 -10,-8.625
3D body: height 0.2, standoff 0, extent -11,-8.875 -10.3,-8.625
3D body: height 0.9, standoff 0, extent -10.3,-8.875 -10.2,-8.625
3D body: height 0.9, standoff 0.7, extent -10.3,-8.875 -10,-8.625
3D body: height 0.2, standoff 0, extent -11,-8.875 -10.3,-8.625
3D body: height 0.9, standoff 0, extent -10.3,-5.375 -10.2,-5.125
3D body: height 0.9, standoff 0.7, extent -10.3,-5.375 -10,-5.125
3D body: height 0.2, standoff 0, extent -11,-5.375 -10.3,-5.125
3D body: height 0.9, standoff 0, extent -10.3,-5.375 -10.2,-5.125
3D body: height 0.9, standoff 0.7, extent -10.3,-5.375 -10,-5.125
3D body: height 0.2, standoff 0, extent -11,-5.375 -10.3,-5.125
3D body: height 0.9, standoff 0, extent -10.3,-5.875 -10.2,-5.625
3D body: height 0.9, standoff 0.7, extent -10.3,-5.875 -10,-5.625
3D body: height 0.2, standoff 0, extent -11,-5.875 -10.3,-5.625
3D body: height 0.9, standoff 0, extent -10.3,-5.875 -10.2,-5.625
3D body: height 0.9, standoff 0.7, extent -10.3,-5.875 -10,-5.625
3D body: height 0.2, standoff 0, extent -11,-5.875 -10.3,-5.625
3D body: height 0.9, standoff 0, extent -10.3,-6.375 -10.2,-6.125
3D body: height 0.9, standoff 0.7, extent -10.3,-6.375 -10,-6.125
3D body: height 0.2, standoff 0, extent -11,-6.375 -10.3,-6.125
3D body: height 0.9, standoff 0, extent -10.3,-6.375 -10.2,-6.125
3D body: height 0.9, standoff 0.7, extent -10.3,-6.375 -10,-6.125
3D body: height 0.2, standoff 0, extent -11,-6.375 -10.3,-6.125
3D body: height 0.9, standoff 0, extent -10.3,-6.875 -10.2,-6.625
3D body: height 0.9, standoff 0.7, extent -10.3,-6.875 -10,-6.625
3D body: height 0.2, standoff 0, extent -11,-6.875 -10.3,-6.625
3D body: height 0.9, standoff 0, extent -10.3,-6.875 -10.2,-6.625
3D body: height 0.9, standoff 0.7, extent -10.3,-6.875 -10,-6.625
3D body: height 0.2, standoff 0, extent -11,-6.875 -10.3,-6.625
3D body: height 0.9, standoff 0, extent -10.3,-3.375 -10.2,-3.125
3D body: height 0.9, standoff 0.7, extent -10.3,-3.375 -10,-3.125
3D body: height 0.2, standoff 0, extent -11,-3.375 -10.3,-3.125
3D body: height 0.9, standoff 0, extent -10.3,-3.375 -10.2,-3.125
3D body: height 0.9, standoff 0.7, extent -10.3,-3.375 -10,-3.125
3D body: height 0.2, standoff 0, extent -11,-3.375 -10.3,-3.125
3D body: height 0.9, standoff 0, extent -10.3,-3.875 -10.2,-3.625
3D body: height 0.9, standoff 0.7, extent -10.3,-3.875 -10,-3.625
3D body: height 0.2, standoff 0, extent -11,-3.875 -10.3,-3.625
3D body: height 0.9, standoff 0, extent -10.3,-3.875 -10.2,-3.625
3D body: height 0.9, standoff 0.7, extent -10.3,-3.875 -10,-3.625
3D body: height 0.2, standoff 0, extent -11,-3.875 -10.3,-3.625
3D body: height 0.9, standoff 0, extent -10.3,-4.375 -10.2,-4.125
3D body: height 0.9, standoff 0.7, extent -10.3,-4.375 -10,-4.125
3D body: height 0.2, standoff 0, extent -11,-4.375 -10.3,-4.125
3D body: height 0.9, standoff 0, extent -10.3,-4.375 -10.2,-4.125
3D body: height 0.9, standoff 0.7, extent -10.3,-4.375 -10,-4.125
3D body: height 0.2, standoff 0, extent -11,-4.375 -10.3,-4.125
3D body: height 0.9, standoff 0, extent -10.3,-4.875 -10.2,-4.625
3D body: height 0.9, standoff 0.7, extent -10.3,-4.875 -10,-4.625
3D body: height 0.2, standoff 0, extent -11,-4.875 -10.3,-4.625
3D body: height 0.9, standoff 0, extent -10.3,-4.875 -10.2,-4.625
3D body: height 0.9, standoff 0.7, extent -10.3,-4.875 -10,-4.625
3D body: height 0.2, standoff 0, extent -11,-4.875 -10.3,-4.625
3D body: height 0.9, standoff 0, extent -10.3,-1.375 -10.2,-1.125
3D body: height 0.9, standoff 0.7, extent -10.3,-1.375 -10,-1.125
3D body: height 0.2, standoff 0, extent -11,-1.375 -10.3,-1.125
3D body: height 0.9, standoff 0, extent -10.3,-1.375 -10.2,-1.125
3D body: height 0.9, standoff 0.7, extent -10.3,-1.375 -10,-1.125
3D body: height 0.2, standoff 0, extent -11,-1.375 -10.3,-1.125
3D body: height 0.9, standoff 0, extent -10.3,-1.875 -10.2,-1.625
3D body: height 0.9, standoff 0.7, extent -10.3,-1.875 -10,-1.625
3D body: height 0.2, standoff 0, extent -11,-1.875 -10.3,-1.625
3D body: height 0.9, standoff 0, extent -10.3,-1.875 -10.2,-1.625
3D body: height 0.9, standoff 0.7, extent -10.3,-1.875 -10,-1.625
3D body: height 0.2, standoff 0, extent -11,-1.875 -10.3,-1.625
3D body: height 0.9, standoff 0, extent -10.3,-2.375 -10.2,-2.125
3D body: height 0.9, standoff 0.7, extent -10.3,-2.375 -10,-2.125
3D body: height 0.2, standoff 0, extent -11,-2.375 -10.3,-2.125
3D body: height 0.9, standoff 0, extent -10.3,-2.375 -10.2,-2.125
3D body: height 0.9, standoff 0.7, extent -10.3,-2.375 -10,-2.125
3D body: height 0.2, standoff 0, extent -11,-2.375 -10.3,-2.125
3D body: height 0.9, standoff 0, extent -10.3,-2.875 -10.2,-2.625
3D body: height 0.9, standoff 0.7, extent -10.3,-2.875 -10,-2.625
3D body: height 0.2, standoff 0, extent -11,-2.875 -10.3,-2.625
3D body: height 0.9, standoff 0, extent -10.3,-2.875 -10.2,-2.625
3D body: height 0.9, standoff 0.7, extent -10.3,-2.875 -10,-2.625
3D body: height 0.2, standoff 0, extent -11,-2.875 -10.3,-2.625
3D body: height 0.9, standoff 0, extent -10.3,0.625 -10.2,0.875
3D body: height 0.9, standoff 0.7, extent -10.3,0.625 -10,0.875
3D body: height 0.2, standoff 0, extent -11,0.625 -10.3,0.875
3D body: height 0.9, standoff 0, extent -10.3,0.625 -10.2,0.875
3D body: height 0.9, standoff 0.7, extent -10.3,0.625 -10,0.875
3D body: height 0.2, standoff 0, extent -11,0.625 -10.3,0.875
3D body: height 0.9, standoff 0, extent -10.3,0.125 -10.2,0.375
3D body: height 0.9, standoff 0.7, extent -10.3,0.125 -10,0.375
3D body: height 0.2, standoff 0, extent -11,0.125 -10.3,0.375
3D body: height 0.9, standoff 0, extent -10.3,0.125 -10.2,0.375
3D body: height 0.9, standoff 0.7, extent -10.3,0.125 -10,0.375
3D body: height 0.2, standoff 0, extent -11,0.125 -10.3,0.375
3D body: height 0.9, standoff 0, extent -10.3,-0.375 -10.2,-0.125
3D body: height 0.9, standoff 0.7, extent -10.3,-0.375 -10,-0.125
3D body: height 0.2, standoff 0, extent -11,-0.375 -10.3,-0.125
3D body: height 0.9, standoff 0, extent -10.3,-0.375 -10.2,-0.125
3D body: height 0.9, standoff 0.7, extent -10.3,-0.375 -10,-0.125
3D body: height 0.2, standoff 0, extent -11,-0.375 -10.3,-0.125
3D body: height 0.9, standoff 0, extent -10.3,-0.875 -10.2,-0.625
3D body: height 0.9, standoff 0.7, extent -10.3,-0.875 -10,-0.625
3D body: height 0.2, standoff 0, extent -11,-0.875 -10.3,-0.625
3D body: height 0.9, standoff 0, extent -10.3,-0.875 -10.2,-0.625
3D body: height 0.9, standoff 0.7, extent -10.3,-0.875 -10,-0.625
3D body: height 0.2, standoff 0, extent -11,-0.875 -10.3,-0.625
3D body: height 0.9, standoff 0, extent -10.3,2.625 -10.2,2.875
3D body: height 0.9, standoff 0.7, extent -10.3,2.625 -10,2.875
3D body: height 0.2, standoff 0, extent -11,2.625 -10.3,2.875
3D body: height 0.9, standoff 0, extent -10.3,2.625 -10.2,2.875
3D body: height 0.9, standoff 0.7, extent -10.3,2.625 -10,2.875
3D body: height 0.2, standoff 0, extent -11,2.625 -10.3,2.875
3D body: height 0.9, standoff 0, extent -10.3,2.125 -10.2,2.375
3D body: height 0.9, standoff 0.7, extent -10.3,2.125 -10,2.375
3D body: height 0.2, standoff 0, extent -11,2.125 -10.3,2.375
3D body: height 0.9, standoff 0, extent -10.3,2.125 -10.2,2.375
3D body: height 0.9, standoff 0.7, extent -10.3,2.125 -10,2.375
3D body: height 0.2, standoff 0, extent -11,2.125 -10.3,2.375
3D body: height 0.9, standoff 0, extent -10.3,1.625 -10.2,1.875
3D body: height 0.9, standoff 0.7, extent -10.3,1.625 -10,1.875
3D body: height 0.2, standoff 0, extent -11,1.625 -10.3,1.875
3D body: height 0.9, standoff 0, extent -10.3,1.625 -10.2,1.875
3D body: height 0.9, standoff 0.7, extent -10.3,1.625 -10,1.875
3D body: height 0.2, standoff 0, extent -11,1.625 -10.3,1.875
3D body: height 0.9, standoff 0, extent -10.3,1.125 -10.2,1.375
3D body: height 0.9, standoff 0.7, extent -10.3,1.125 -10,1.375
3D body: height 0.2, standoff 0, extent -11,1.125 -10.3,1.375
3D body: height 0.9, standoff 0, extent -10.3,1.125 -10.2,1.375
3D body: height 0.9, standoff 0.7, extent -10.3,1.125 -10,1.375
3D body: height 0.2, standoff 0, extent -11,1.125 -10.3,1.375
3D body: height 0.9, standoff 0, extent -10.3,4.625 -10.2,4.875
3D body: height 0.9, standoff 0.7, extent -10.3,4.625 -10,4.875
3D body: height 0.2, standoff 0, extent -11,4.625 -10.3,4.875
3D body: height 0.9, standoff 0, extent -10.3,4.625 -10.2,4.875
3D body: height 0.9, standoff 0.7, extent -10.3,4.625 -10,4.875
3D body: height 0.2, standoff 0, extent -11,4.625 -10.3,4.875
3D body: height 0.9, standoff 0, extent -10.3,4.125 -10.2,4.375
3D body: height 0.9, standoff 0.7, extent -10.3,4.125 -10,4.375
3D body: height 0.2, standoff 0, extent -11,4.125 -10.3,4.375
3D body: height 0.9, standoff 0, extent -10.3,4.125 -10.2,4.375
3D body: height 0.9, standoff 0.7, extent -10.3,4.125 -10,4.375
3D body: height 0.2, standoff 0, extent -11,4.125 -10.3,4.375
3D body: height 0.9, standoff 0, extent -10.3,3.625 -10.2,3.875
3D body: height 0.9, standoff 0.7, extent -10.3,3.625 -10,3.875
3D body: height 0.2, standoff 0, extent -11,3.625 -10.3,3.875
3D body: height 0.9, standoff 0, extent -10.3,3.625 -10.2,3.875
3D body: height 0.9, standoff 0.7, extent -10.3,3.625 -10,3.875
3D body: height 0.2, standoff 0, extent -11,3.625 -10.3,3.875
3D body: height 0.9, standoff 0, extent -10.3,3.125 -10.2,3.375
3D body: height 0.9, standoff 0.7, extent -10.3,3.125 -10,3.375
3D body: height 0.2, standoff 0, extent -11,3.125 -10.3,3.375
3D body: height 0.9, standoff 0, extent -10.3,3.125 -10.2,3.375
3D body: height 0.9, standoff 0.7, extent -10.3,3.125 -10,3.375
3D body: height 0.2, standoff 0, extent -11,3.125 -10.3,3.375
3D body: height 0.9, standoff 0, extent -10.3,6.625 -10.2,6.875
3D body: height 0.9, standoff 0.7, extent -10.3,6.625 -10,6.875
3D body: height 0.2, standoff 0, extent -11,6.625 -10.3,6.875
3D body: height 0.9, standoff 0, extent -10.3,6.625 -10.2,6.875
3D body: height 0.9, standoff 0.7, extent -10.3,6.625 -10,6.875
3D body: height 0.2, standoff 0, extent -11,6.625 -10.3,6.875
3D body: height 0.9, standoff 0, extent -10.3,6.125 -10.2,6.375
3D body: height 0.9, standoff 0.7, extent -10.3,6.125 -10,6.375
3D body: height 0.2, standoff 0, extent -11,6.125 -10.3,6.375
3D body: height 0.9, standoff 0, extent -10.3,6.125 -10.2,6.375
3D body: height 0.9, standoff 0.7, extent -10.3,6.125 -10,6.375
3D body: height 0.2, standoff 0, extent -11,6.125 -10.3,6.375
3D body: height 0.9, standoff 0, extent -10.3,5.625 -10.2,5.875
3D body: height 0.9, standoff 0.7, extent -10.3,5.625 -10,5.875
3D body: height 0.2, standoff 0, extent -11,5.625 -10.3,5.875
3D body: height 0.9, standoff 0, extent -10.3,5.625 -10.2,5.875
3D body: height 0.9, standoff 0.7, extent -10.3,5.625 -10,5.875
3D body: height 0.2, standoff 0, extent -11,5.625 -10.3,5.875
3D body: height 0.9, standoff 0, extent -10.3,5.125 -10.2,5.375
3D body: height 0.9, standoff 0.7, extent -10.3,5.125 -10,5.375
3D body: height 0.2, standoff 0, extent -11,5.125 -10.3,5.375
3D body: height 0.9, standoff 0, extent -10.3,5.125 -10.2,5.375
3D body: height 0.9, standoff 0.7, extent -10.3,5.125 -10,5.375
3D body: height 0.2, standoff 0, extent -11,5.125 -10.3,5.375
3D body: height 0.2, standoff 0, extent -11,7.125 -10.3,7.375
3D body: height 0.9, standoff 0.7, extent -10.3,7.125 -10,7.375
3D body: height 0.9, standoff 0, extent -10.3,7.125 -10.2,7.375
3D body: height 0.2, standoff 0, extent -11,7.125 -10.3,7.375
3D body: height 0.9, standoff 0.7, extent -10.3,7.125 -10,7.375
3D body: height 0.9, standoff 0, extent -10.3,7.125 -10.2,7.375
3D body: height 0.2, standoff 0, extent -11,7.625 -10.3,7.875
3D body: height 0.9, standoff 0.7, extent -10.3,7.625 -10,7.875
3D body: height 0.9, standoff 0, extent -10.3,7.625 -10.2,7.875
3D body: height 0.2, standoff 0, extent -11,7.625 -10.3,7.875
3D body: height 0.9, standoff 0.7, extent -10.3,7.625 -10,7.875
3D body: height 0.9, standoff 0, extent -10.3,7.625 -10.2,7.875
3D body: height 0.2, standoff 0, extent -11,8.125 -10.3,8.375
3D body: height 0.9, standoff 0.7, extent -10.3,8.125 -10,8.375
3D body: height 0.9, standoff 0, extent -10.3,8.125 -10.2,8.375
3D body: height 0.2, standoff 0, extent -11,8.125 -10.3,8.375
3D body: height 0.9, standoff 0.7, extent -10.3,8.125 -10,8.375
3D body: height 0.9, standoff 0, extent -10.3,8.125 -10.2,8.375
3D body: height 0.2, standoff 0, extent -11,8.625 -10.3,8.875
3D body: height 0.9, standoff 0.7, extent -10.3,8.625 -10,8.875
3D body: height 0.9, standoff 0, extent -10.3,8.625 -10.2,8.875
3D body: height 0.2, standoff 0, extent -11,8.625 -10.3,8.875
3D body: height 0.9, standoff 0.7, extent -10.3,8.625 -10,8.875
3D body: height 0.9, standoff 0, extent -10.3,8.625 -10.2,8.875
3D body: height 1.6, standoff 0.1, extent -10,-10 10,10
3D body: height 1.61, standoff 1.6, extent -8.799,8.203 -8.201,8.8